# EAGLE library part ARDUINO (library BaseApp)
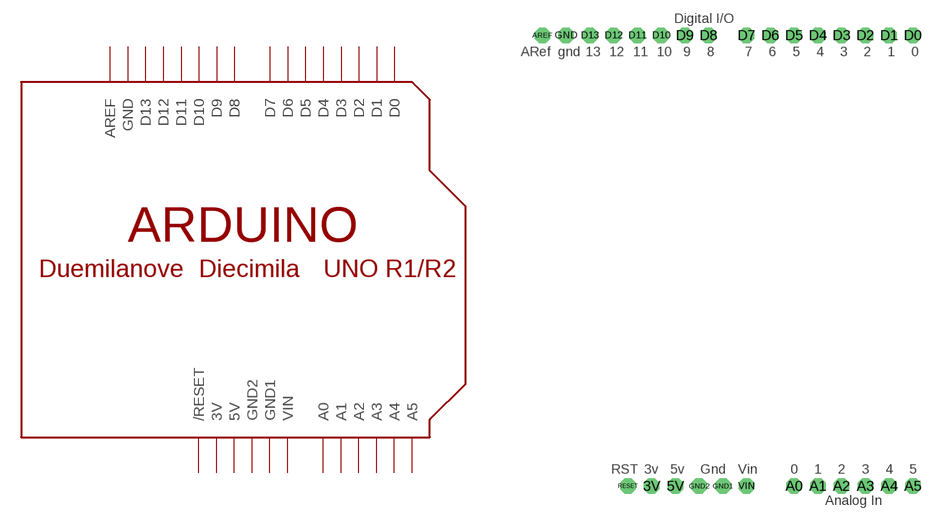
[diagram p82: symbol with the pads of ARDUINO-PINS-ONLY; footprint ARDUINO-PINS-ONLY]

Designator prefix -

## ARDUINO  [ARDUINO-PINS-ONLY]
3V  3V  pwr
5V  5V  pwr
A0  A0
A1  A1
A2  A2
A3  A3
A4  A4
A5  A5
AREF  AREF
D0  D0
D1  D1
D2  D2
D3  D3
D4  D4
D5  D5
D6  D6
D7  D7
D8  D8
D9  D9
D10  D10
D11  D11
D12  D12
D13  D13
GND  GND  pwr
GND1  GND1  pwr
GND2  GND2  pwr
RESET  /RESET
VIN  VIN  pwr

## Footprint ARDUINO-PINS-ONLY (pad centres in mm)
drill 1 pad 1.676 octagon: 3V 1.27,-24.13; 5V 3.81,-24.13; A0 16.51,-24.13; A1 19.05,-24.13; A2 21.59,-24.13; A3 24.13,-24.13; A4 26.67,-24.13; A5 29.21,-24.13; AREF -10.414,24.13; D0 29.21,24.13; D1 26.67,24.13; D2 24.13,24.13; D3 21.59,24.13; D4 19.05,24.13; D5 16.51,24.13; D6 13.97,24.13; D7 11.43,24.13; D8 7.366,24.13; D9 4.826,24.13; D10 2.286,24.13; D11 -0.254,24.13; D12 -2.794,24.13; D13 -5.334,24.13; GND -7.874,24.13; GND1 8.89,-24.13; GND2 6.35,-24.13; RESET -1.27,-24.13; VIN 11.43,-24.13